# Altium footprint library Connector, S16B-PADSS-1.PcbLib: 1 footprints
Each footprint in its own frame and in the unit in brackets; x right, y up, seen from the top. Pads: shape width x height; smd on the part's side, far side on the other; paste and mask are expansions set on the pad; w line width, h text height; cw(c..) or ccw(c..) is an arc to the next point about the centre after c.
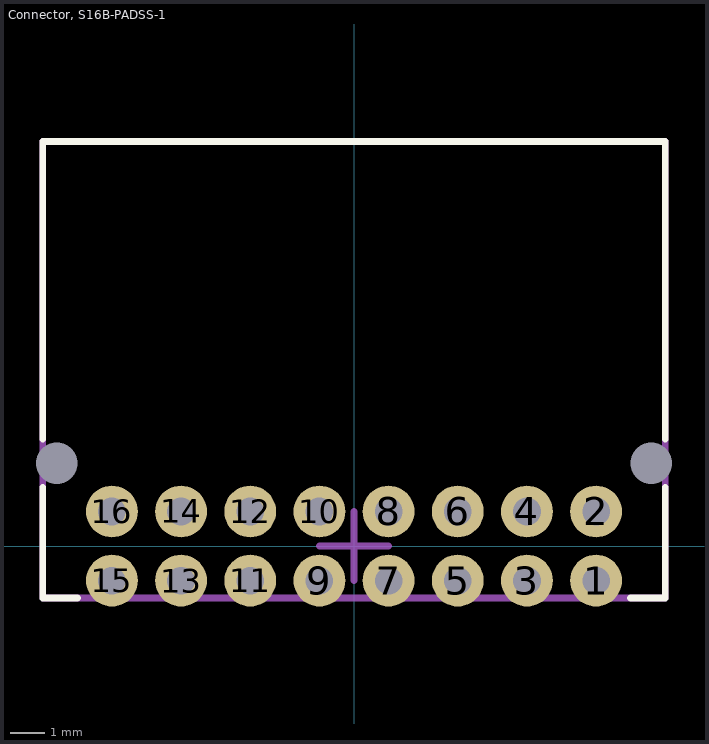
[diagram p0: the footprint, top view; thin cyan lines are the x and y axes]

## Connector, S16B-PADSS-1 [mm] "Connector, S16B-PADSS-1"
height 10.5
pads (18):
  round 1.5 hole 0.8 mask+0.05: 1(7,-1) 2(7,1) 3(5,-1) 4(5,1) 5(3,-1) 6(3,1) 7(1,-1) 8(1,1) 9(-1,-1) 10(-1,1) 11(-3,-1) 12(-3,1) 13(-5,-1) 14(-5,1) 15(-7,-1) 16(-7,1)
  round 0 hole 1.2 unplated mask+0.05: 8-VIN(-8.6,2.4) 8-VIN(8.6,2.4)
Top Overlay:
  lines w0.2: -9,1.7 -9,-1.5 -8,-1.5 ; -9,3.1 -9,11.7 9,11.7 9,3.1 ; 8,-1.5 9,-1.5 9,1.7
Top Assembly:
  lines w0.2: -9,-1.5 -9,11.7 9,11.7 9,-1.5 -9,-1.5
Top Designator:
  text ".Designator" at -4,5.375 h2
Top Component Center:
  lines w0.2: -1,0 1,0 ; 0,-1 0,1
3D body "JST - PAD -2x8 - Through Hole, Side Entry - S16B-PADSS-1.step": height 10.35, standoff -3.15, extent -9.012,-1.511 8.988,11.689